# EAGLE library part QUAD_SOLDER_PTS_WITH_2_DEFAULTS (library lightuino3.lbrlightuino3.1)
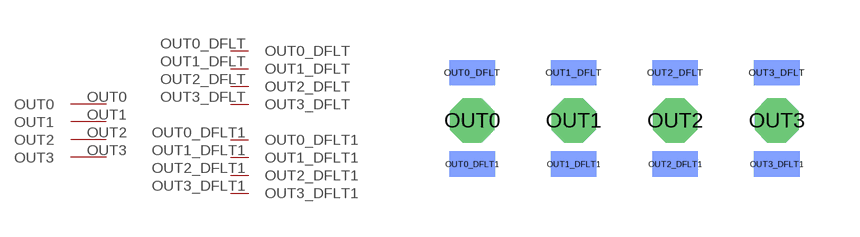
[diagram p15: symbol with the pads of QUAD_SOLDER_PTS_WITH_2_DEFAULTS; footprint QUAD_SOLDER_PTS_WITH_2_DEFAULTS]

Designator prefix -

## QUAD_SOLDER_PTS_WITH_2_DEFAULTS  [QUAD_SOLDER_PTS_WITH_2_DEFAULTS]
OUT0  OUT0
OUT0_DFLT  OUT0_DFLT
OUT0_DFLT1  OUT0_DFLT1
OUT1  OUT1
OUT1_DFLT  OUT1_DFLT
OUT1_DFLT1  OUT1_DFLT1
OUT2  OUT2
OUT2_DFLT  OUT2_DFLT
OUT2_DFLT1  OUT2_DFLT1
OUT3  OUT3
OUT3_DFLT  OUT3_DFLT
OUT3_DFLT1  OUT3_DFLT1

## Footprint QUAD_SOLDER_PTS_WITH_2_DEFAULTS (pad centres in mm)
drill 0.6 pad 1.016 octagon: OUT0 -4.445,0; OUT1 -1.905,0; OUT2 0.635,0; OUT3 3.175,0
smd 1.143 x 0.635 bottom: OUT0_DFLT -4.445,1.194; OUT0_DFLT1 -4.445,-1.092; OUT1_DFLT -1.905,1.194; OUT1_DFLT1 -1.905,-1.092; OUT2_DFLT 0.635,1.194; OUT2_DFLT1 0.635,-1.092; OUT3_DFLT 3.175,1.194; OUT3_DFLT1 3.175,-1.092